# Altium footprint library Antenna Tracker.PcbLib: 17 footprints (part 2 of 2)
Each footprint in its own frame and in the unit in brackets; x right, y up, seen from the top. Pads: shape width x height; smd on the part's side, far side on the other; paste and mask are expansions set on the pad; w line width, h text height; cw(c..) or ccw(c..) is an arc to the next point about the centre after c.
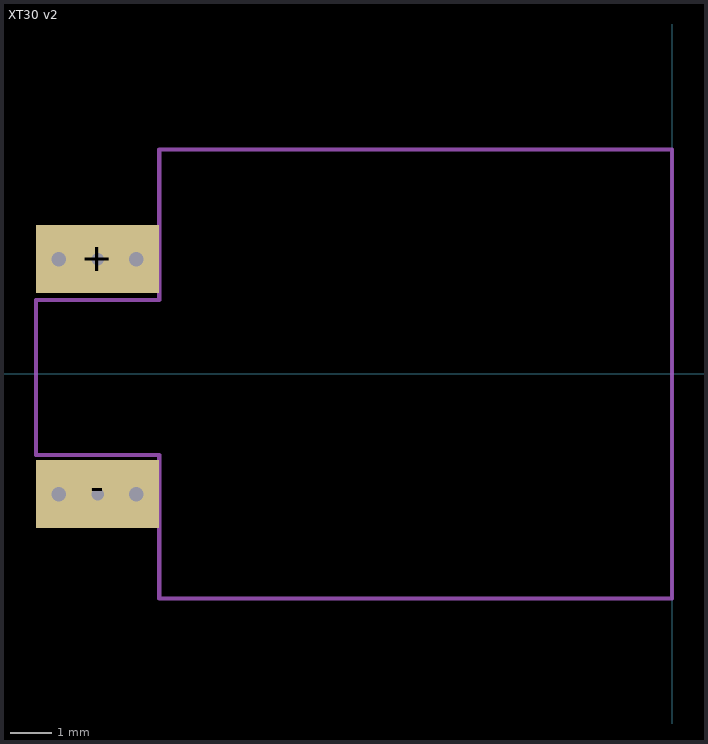
[diagram p1: the footprint, top view; thin cyan lines are the x and y axes]

## XT30 v2 [mm]
pads (2):
  rect 3x1.65 hole 0.305: +(-13.97,2.794) -(-13.97,-2.921)
via -14.91,2.794 diameter 0.35 hole 0.35
via -13.03,2.794 diameter 0.35 hole 0.35
via -13.03,-2.921 diameter 0.35 hole 0.35
via -14.91,-2.921 diameter 0.35 hole 0.35
Courtyard Bottom:
  lines w0.1: -15.47,-1.966 -15.47,1.799 -15.37,1.799 -12.47,1.799 -12.47,5.461 0,5.461 0,-5.461 -12.47,-5.461 -12.47,-1.966 -15.37,-1.966 -15.47,-1.966
3D body "XT30_male.STEP": height 2.5, standoff -2.75, extent -15.494,-5.225 0.006,5.225